# EAGLE library part BIG_HEADER (library Cing Library)
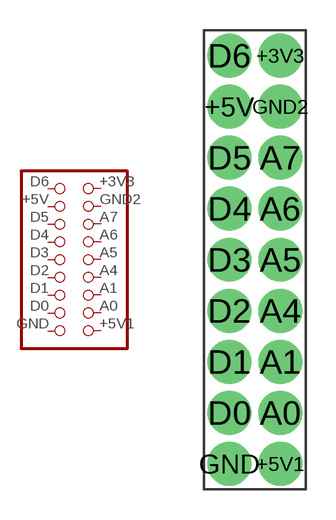
[diagram p7: symbol with the pads of BIG_HEADER; footprint BIG_HEADER]

Designator prefix -

## BIG_HEADER  [BIG_HEADER]
+3V3  +3V3  pas
+5V  +5V  pas
+5V1  +5V1  pas
A0  A0  pas
A1  A1  pas
A4  A4  pas
A5  A5  pas
A6  A6  pas
A7  A7  pas
D0  D0  pas
D1  D1  pas
D2  D2  pas
D3  D3  pas
D4  D4  pas
D5  D5  pas
D6  D6  pas
GND  GND  pas
GND2  GND1  pas

## Footprint BIG_HEADER (pad centres in mm)
drill 1 pad 2.184: +3V3 1.27,10.16; +5V -1.27,7.62; +5V1 1.27,-10.16; A0 1.27,-7.62; A1 1.27,-5.08; A4 1.27,-2.54; A5 1.27,0; A6 1.27,2.54; A7 1.27,5.08; D0 -1.27,-7.62; D1 -1.27,-5.08; D2 -1.27,-2.54; D3 -1.27,0; D4 -1.27,2.54; D5 -1.27,5.08; D6 -1.27,10.16; GND -1.27,-10.16; GND2 1.27,7.62